# Altium footprint library PCB - LEADED - SOP65P640X120-24N.PCBLIB: 1 footprints
Each footprint in its own frame and in the unit in brackets; x right, y up, seen from the top. Pads: shape width x height; smd on the part's side, far side on the other; paste and mask are expansions set on the pad; w line width, h text height; cw(c..) or ccw(c..) is an arc to the next point about the centre after c.
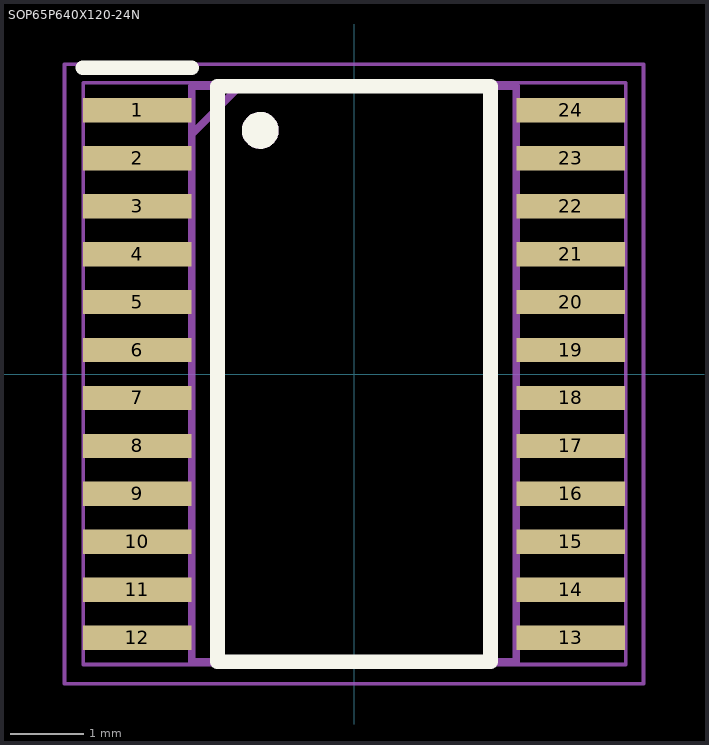
[diagram p0: the footprint, top view; thin cyan lines are the x and y axes]

## SOP65P640X120-24N [mm]
pads (24):
  rect 1.475x0.33 smd: 1(-2.938,3.575) 2(-2.938,2.925) 3(-2.938,2.275) 4(-2.938,1.625) 5(-2.938,0.975) 6(-2.938,0.325) 7(-2.938,-0.325) 8(-2.938,-0.975) 9(-2.938,-1.625) 10(-2.938,-2.275) 11(-2.938,-2.925) 12(-2.938,-3.575) 13(2.938,-3.575) 14(2.938,-2.925) 15(2.938,-2.275) 16(2.938,-1.625) 17(2.938,-0.975) 18(2.938,-0.325) 19(2.938,0.325) 20(2.938,0.975) 21(2.938,1.625) 22(2.938,2.275) 23(2.938,2.925) 24(2.938,3.575)
Top Overlay:
  circle w0.25: c-1.27,3.302 r0.125
  lines w0.2: -3.675,4.15 -2.2,4.15 ; -1.85,-3.9 1.85,-3.9 1.85,3.9 -1.85,3.9 -1.85,-3.9
Top Assembly:
  circle w0.25: c-1.27,3.302 r0.125
  lines w0.05: -3.671,-3.937 -3.671,3.946 3.683,3.946 3.683,-3.937 -3.671,-3.937
  lines w0.1: -2.2,3.25 -1.55,3.9 ; -2.2,-3.9 2.2,-3.9 2.2,3.9 -2.2,3.9 -2.2,-3.9
Top Courtyard:
  lines w0.05: -3.925,-4.2 3.925,-4.2 3.925,4.2 -3.925,4.2 -3.925,-4.2
Top Designator (Mech9):
  text ".Designator" at 4.191,-2.54 h1
Top Value:
  text ".Comment" at 4.064,-3.683 h1
3D body "TCA9535PWR.stp": height 1.2, standoff 0, extent -3.2,-3.9 3.2,3.9